# Altium schematic symbol library MyCompLib.SchLib: 229 symbols (part 1 of 2)
Pins are listed as number, name and electrical type; pins without a type are passive.

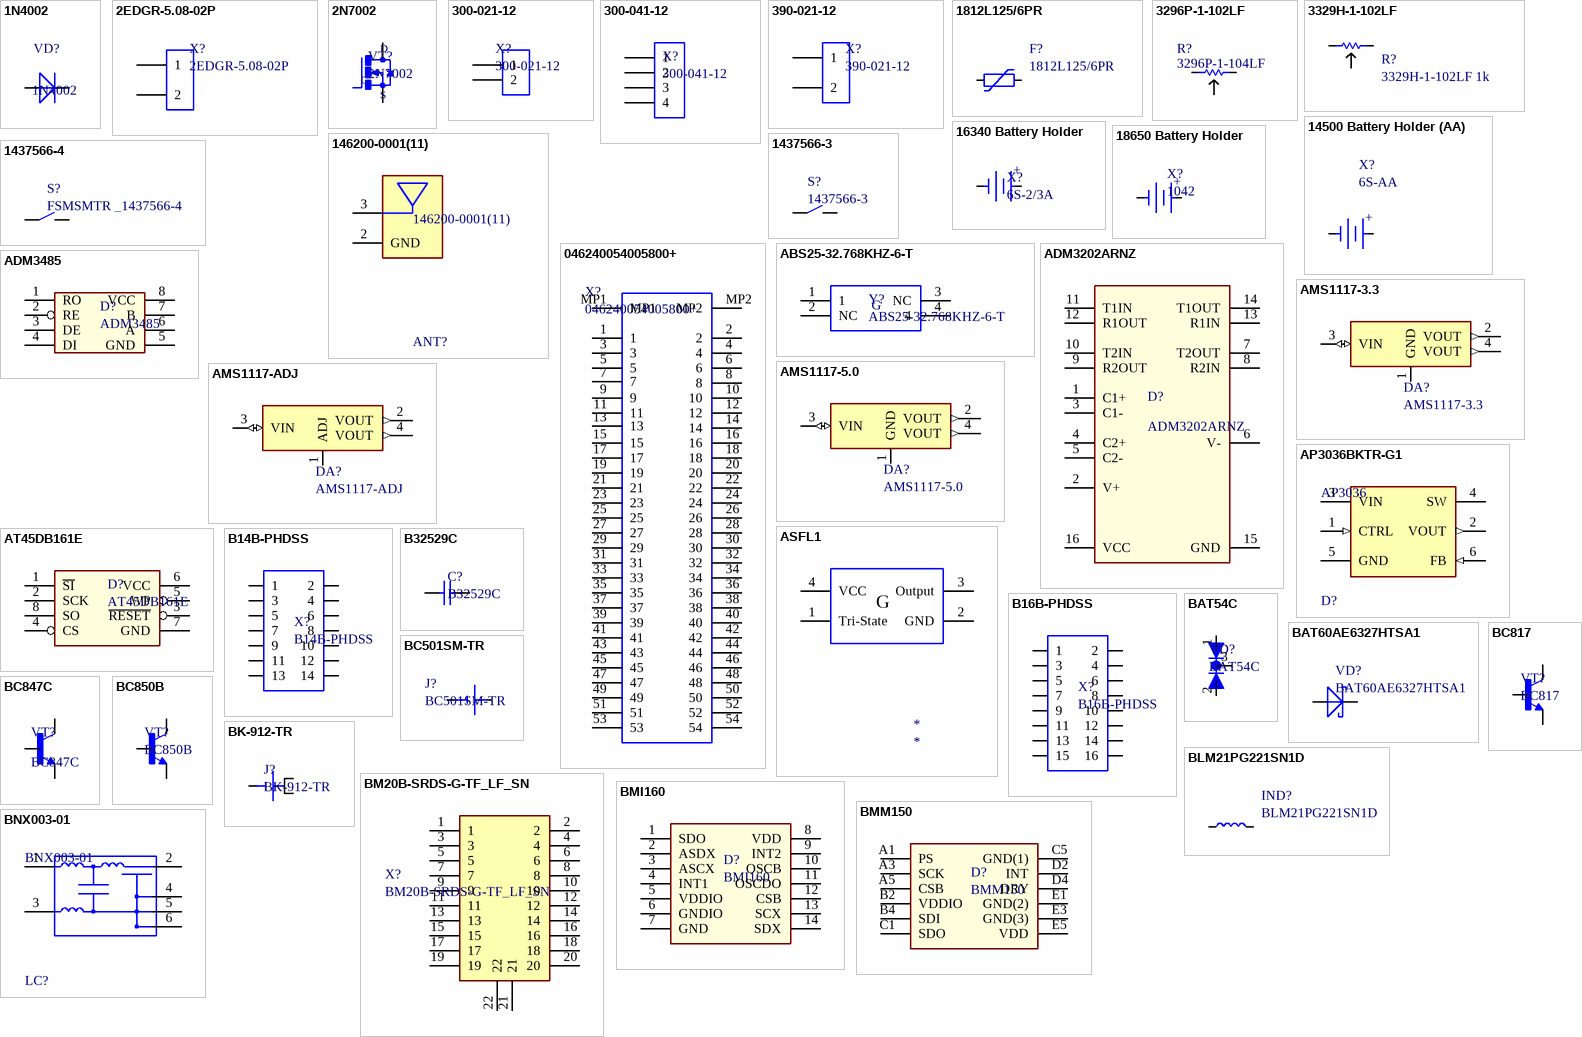
[diagram p0: symbols 1N4002 to BNX003-01]

## 1N4002
designator VD?
Diode Standard 100V 1A Through Hole DO-204AL _DO-41_; MF: ON Semiconductor; MP: 1N4002; Package: DO-204 MCC; Availability: Unavailable; Price: None; SnapEDA_Link: https://www.snapeda.com/parts/1N4002/ON%20Semiconductor/view-part/2756002/?ref=snap; Value: *
footprint DIOAD520W79L463D238_1N4002(Primary)
pins: A, C

## 2EDGR-5.08-02P
designator X?
Клеммник разъемный угловой 2 конт., шаг 5.08 мм / (KLS2-EDR-5.08-02P-4) / 2EDGK-5.08-02P - ответная часть; ComponentLink1Description: chipdip; ComponentLink1URL: https://www.chipdip.ru/product/kls2-edr-5.08-02p-4-2edgr-5.08-02p; ComponentLink2Description: elitan; ComponentLink2URL: https://www.elitan.ru/price/item21239767; ComponentLink3Description: ответная-часть; ComponentLink3URL: https://www.elitan.ru/price/item130957; ComponentLink4Description: на-кабель; ComponentLink4URL: https://www.chipdip.ru/product/kls2-edk-5.08-02p-4s-2esdv-02p?from=suggest_product
footprint 2EDGR-5.08-02P
pins: 1, 2

## 2N7002
designator VT?
N-Channel MOSFET 60В 0.115А [SOT-23] /; ComponentLink1Description: chipdip; ComponentLink1URL: https://www.chipdip.ru/product/2n7002-tp-reel-3000; ComponentLink2Description: elitan; ComponentLink2URL: https://www.elitan.ru/price/item484309
footprint SOT23
pins: 1 G, 2 S, 3 D

## 300-021-12
designator X?
Клеммник винтовой, 2-контактный, 5мм, прямой
footprint 300-021-12 (klemmnik 2)
pins: 1, 2

## 300-041-12
designator X?
Клеммник винтовой, 4-контактный, 5мм, прямой
footprint 300-041-12 (klemmnik 2)
pins: 1, 2, 3, 4

## 390-021-12
designator X?
Зажимной Клеммник 2-контактный, 5.0мм угловой DG390-5.0-02P (XY118-2P-05); ComponentLink1Description: chipdip; ComponentLink1URL: https://www.chipdip.ru/product/390-021-12?from=suggest_product; ComponentLink2Description: elitan; ComponentLink2URL: https://www.elitan.ru/price/item12230651
footprint 390-021-12
pins: 1, 2

## 1812L125/6PR
designator F?
Предохранитель SMD 6 VDC 2.5 A; ComponentLink1Description: elitan; ComponentLink1URL: https://www.elitan.ru/price/item387111
footprint FUSSC324X455X62L
pins: 1, 2

## 3296P-1-102LF
designator R?, comment 3296P-1-104LF
1 kOhms 0.5W, 1/2W PC Pins Through Hole Trimmer Potentiometer Cermet 25 Turn Side Adjustment; MF: Bourns; Package: QSOP-16 Bourns; MP: 3296P-1-104LF; SnapEDA_Link: https://www.snapeda.com/parts/3296P-1-104LF/Bourns/view-part/268477/?ref=snap; Availability: Unavailable; Price: None; Value: *
footprint 3296P-1
pins: 1 CCW, 2 WIPER, 3 CW

## 3329H-1-102LF
designator R?, comment 3329H-1-102LF 1k
1 кОм, Резистор подстроечный
footprint 3329H_1
pins: 1 CCW, 2 WIPER, 3 CW

## 14500 Battery Holder (AA)
designator X?, comment 6S-AA
14500 (AA) BATTERY HOLDER PC PIN / 6S-AA / BHAA-POL / BHAA-3-G; ComponentLink1Description: 6S_AA-elitan; ComponentLink1URL: https://www.elitan.ru/price/item10505404; ComponentLink2Description: battery_holders; ComponentLink2URL: https://www.batteryholders.com/search.php?cat=Battery+Holder&num=&type=AA&term=; ComponentLink3Description: BHAA-POL-elitan; ComponentLink3URL: https://www.elitan.ru/price/item10505736; ComponentLink4Description: BHAA-3-G-elitan; ComponentLink4URL: https://www.elitan.ru/price/item10505735; ComponentLink5Description: EagTac 14500 750mAh 3А защищенный; ComponentLink5URL: https://www.lacrosse-nn.ru/%D0%B0%D0%BA%D0%BA%D1%83%D0%BC%D1%83%D0%BB%D1%8F%D1%82%D0%BE%D1%80%D1%8B-li-ion-14500-16340-rcr123/eagtac-14500-750mah-3a/; ComponentLink6Description: EAGTAC 750mAh защищенный; ComponentLink6URL: https://magzaryada.ru/akkumulyatory/14500-16340/eagletac-14500; ComponentLink7Description: keystone1028-elitan; ComponentLink7URL: https://www.elitan.ru/price/item535632
footprint BAT_6S-AA
footprint BAT_BHAA-POL-G_MFG
footprint BAT_keystone1028_AA_14500
pins: NEG, POS
text: +

## 16340 Battery Holder
designator X?, comment 6S-2/3A
16340 Battery Holder with PC pins / Also Accepts: CR2/3A / Height above PCB: 15.1 mm; ComponentLink1Description: 6S-2/3A-elitan; ComponentLink1URL: https://www.elitan.ru/price/index.php?find=6S-2/3A&delay=-1&mfg=all&seenform=y; ComponentLink2Description: elitan_info; ComponentLink2URL: https://www.elitan.ru/price/item10994146; ComponentLink3Description: battery_holders; ComponentLink3URL: https://www.batteryholders.com/search.php?cat=Battery+Holder&num=&type=CR123A&term=&override=16340; ComponentLink4Description: 16340_750mAh_4.5A; ComponentLink4URL: https://magzaryada.ru/akkumulyatory/14500-16340/eagletac-16340-rcr123; ComponentLink5Description: EAGTAC 16340 / RCR123A 750mAh 4,5A защищенный; ComponentLink5URL: https://www.lacrosse-nn.ru/%D0%B0%D0%BA%D0%BA%D1%83%D0%BC%D1%83%D0%BB%D1%8F%D1%82%D0%BE%D1%80%D1%8B-li-ion-14500-16340-rcr123/eagtac-16340-750mah-4-5a/; ComponentLink6Description: 1029-elitan; ComponentLink6URL: https://www.elitan.ru/price/item468733
footprint BAT_6S-2/3A
footprint BAT_Keystone1029_2\3A_16340
pins: NEG, POS
text: +

## 18650 Battery Holder
designator X?, comment 1042
18650 Отсек для батарей; Размер: Монтаж: SMT; Кол-во бат:1 / 1044 / 1042 / BH-18650-PC /; ComponentLink1Description: 1042_elitan; ComponentLink1URL: https://www.elitan.ru/price/item8718560; ComponentLink2Description: 1044_elitan; ComponentLink2URL: https://www.elitan.ru/price/item11329775; ComponentLink3Description: BH-18650-PC-elitan; ComponentLink3URL: https://www.elitan.ru/price/item10505558; ComponentLink4Description: Li-Ion SAMSUNG 18650 35E (3400mah, 8A); ComponentLink4URL: https://air-hobby.ru/katalog/product/3487-akkumulyator-li-ion-samsung-18650-35e-3400mah-8a.html
footprint BAT_Keystone_1042
footprint BAT_BH-18650-PC
pins: NEG, POS
text: +

## 146200-0001(11)
designator ANT?
LTE Cellular Ceramic Antenna 698MHz-2.7GHz , SMT; ComponentLink1Description: 146200-0001 - elitan; ComponentLink1URL: https://www.elitan.ru/price/item13749296; ComponentLink2Description: 1462000011 - elitan; ComponentLink2URL: https://www.elitan.ru/price/item17428368
footprint Molex_146200-0001_MFG (LTE SMT ANTENNA)
footprint Molex_146200-0011_MFG (LTE SMT ANTENNA)
pins: 2 GND (power), 3 FEEDING

## 1437566-3
designator S?
SMD button; ComponentLink1Description: chipdip; ComponentLink1URL: https://www.chipdip.ru/product/tyco-1437566-3-fsmsm?from=suggest_product; ComponentLink2Description: elitan; ComponentLink2URL: https://www.elitan.ru/price/item565583
footprint 1437566-3
pins: 1, 2

## 1437566-4
designator S?, comment FSMSMTR _1437566-4
Switch Tactile OFF _ON_ SPST Rectangular Button Gull Wing 0.05A 12VDC 1.77N SMD T/R
footprint 1437566-4
pins: 1, 2

## 046240054005800+
designator X?
Connector; Manufacturer_Name: Kyocera Electronic Components; Datasheet Link: http://global.kyocera.com/prdct/electro/product/pdf/6240.pdf; Height: 4.7mm; Manufacturer_Part_Number: 046240054005800+
footprint 046240054005800
pins: 1, 2, 3, 4, 5, 6, 7, 8, 9, 10, 11, 12, 13, 14, 15, 16, 17, 18, 19, 20, 21, 22, 23, 24, 25, 26, 27, 28, 29, 30, 31, 32, 33, 34, 35, 36, 37, 38, 39, 40, 41, 42, 43, 44, 45, 46, 47, 48, 49, 50, 51, 52, 53, 54, MP1, MP2

## ABS25-32.768KHZ-6-T
designator Y?
32.768 kHz LOW FREQUENCY SMD CRYSTAL
footprint ABS25
pins: 1, 2 NC, 3 NC, 4
text: G

## ADM3202ARNZ
designator D?
3.3V SMD RS232-UART
footprint SOIC-16
pins: 1 C1+, 2 V+ (power), 3 C1-, 4 C2+, 5 C2-, 6 V- (power), 7 T2OUT, 8 R2IN, 9 R2OUT, 10 T2IN, 11 T1IN, 12 R1OUT, 13 R1IN, 14 T1OUT, 15 GND, 16 VCC (power)

## ADM3485
designator D?
3V RS485 Transciever
footprint SOIC8 (SO-8)
pins: 1 RO, 2 RE, 3 DE, 4 DI (power), 5 GND, 6 A, 7 B, 8 VCC (power)

## AMS1117-3.3
designator DA?
LDO  800мА, 3.3В, [SOT-223] Линейный регулятор с малым падением напряжения Максимальное входное напряжение, 15В; ComponentLink1Description: chipdip; ComponentLink1URL: https://www.chipdip.ru/product/ams1117-3.3; ComponentLink2Description: elitan; ComponentLink2URL: https://www.elitan.ru/price/item11501398
footprint SOT223
pins: 1 GND, 2 VOUT (out), 3 VIN (io), 4 VOUT (out)

## AMS1117-5.0
designator DA?
LDO  800мА, 5B [SOT-223] Линейный регулятор с малым падением напряжения Максимальное входное напряжение, 15 В; ComponentLink1Description: chipdip; ComponentLink1URL: https://www.chipdip.ru/product/ams1117-5.0?from=suggest_product; ComponentLink2Description: elitan; ComponentLink2URL: https://www.elitan.ru/price/item16347439
footprint SOT223
pins: 1 GND, 2 VOUT (out), 3 VIN (io), 4 VOUT (out)

## AMS1117-ADJ
designator DA?
LDO  800мА,  [SOT-223] Линейный регулятор с малым падением напряжения Максимальное входное напряжение, 15 В; ComponentLink1Description: chipdip; ComponentLink1URL: https://www.chipdip.ru/product/ams1117-adj; ComponentLink2Description: elitan; ComponentLink2URL: https://www.elitan.ru/price/item13462037
footprint SOT223
pins: 1 ADJ, 2 VOUT (out), 3 VIN (io), 4 VOUT (out)

## AP3036BKTR-G1
designator D?, comment AP3036
Inductor-based DC/DC converter designed to / drive up to eight white LEDs in series for backlight
footprint Diodes_SOT26_SC74R_IPC_B
pins: 1 CTRL (in), 2 VOUT (out), 3 VIN (power), 4 SW, 5 GND (power), 6 FB (in)

## ASFL1
designator *
pins: 1 Tri-State, 2 GND, 3 Output, 4 VCC
text: G

## AT45DB161E
designator D?
SPI FLASH 16Mbit(528 bytes x 4096 pages)
footprint SOIC8(5.3mm)
pins: 1 ~{SI}, 2 SCK, 3 ~{RESET}, 4 CS (power), 5 WP, 6 VCC, 7 GND, 8 SO (power)

## B14B-PHDSS
designator X?
HEADER, PHD, TOP, 16WAY, 2MM; Pitch Spacing:2mm; No. of Contacts:14Contacts;
footprint PHD14
pins: 1, 2, 3, 4, 5, 6, 7, 8, 9, 10, 11, 12, 13, 14

## B16B-PHDSS
designator X?
HEADER, PHD, TOP, 16WAY, 2MM; Pitch Spacing:2mm; No. of Contacts:16Contacts;
footprint PHD16
pins: 1, 2, 3, 4, 5, 6, 7, 8, 9, 10, 11, 12, 13, 14, 15, 16

## B32529C
designator C?
К73-17 Конденсатор металлоплёночный
footprint B32529(K73-17)_2.5x6.5x7.3
footprint B32529(K73-17)_3.5x8x7.3
footprint B32529(K73-17)_4.5x9.5x7.3
pins: 1, 2

## BAT54C
designator VD?
Small Signal Schottky Diode, Dual Common Cathode, 30 V, 200 mA, 400 mV, 600 mA, 125 C
footprint BAT54C_SOT23-3
pins: 1 A1, 2 A2, 3 C

## BAT60AE6327HTSA1
designator VD?
Диод Шоттки 3А Vfr = 0.37В, Vmax =10В [SOD-323]; ComponentLink1Description: chipdip; ComponentLink1URL: https://www.chipdip.ru/product/bat60a?from=suggest_product; ComponentLink2Description: elitan; ComponentLink2URL: https://www.elitan.ru/price/item9533309
footprint SOD-323
pins: 1 POS, 2 NEG

## BC501SM-TR
designator J?
Holder Coin Cell For Cr1220 Smd
footprint BC501SM-TR
pins: NEG, POS

## BC817
designator VT?
Transistor, NPN, 0.5A, 45V, Vbe = 1.2V , hfe = 40 [ SOT23 ]; ComponentLink1Description: chipdip; ComponentLink1URL: https://www.chipdip.ru/product/bc817-40?from=suggest_product
footprint SOT23
footprint SOT23-3
pins: 1 B, 2 E, 3 C

## BC847C
designator VT?
Транзистор NPN 45В 0.1А 0.25Вт
footprint SOT23
footprint SOT23-3
pins: 1 B, 2 E, 3 C

## BC850B
designator VT?
Transistor, Npn, 0.1A, 50V, Vbe = 0.7V, hfe = 240 [ SOT23 ]; ComponentLink1Description: chipdip; ComponentLink1URL: https://www.chipdip.ru/product/bc850b?from=suggest_product; ComponentLink2Description: elitan; ComponentLink2URL: https://www.elitan.ru/price/item5642305
footprint SOT23
footprint SOT23-3
pins: 1 B, 2 E, 3 C

## BK-912-TR
designator J?
Holder Coin Cell 20mm Smd
footprint BK-912-TR (CR2032battery holder)
footprint BK-912-TR_batt
pins: 1 POS, 2 POS, 3 NEG

## BLM21PG221SN1D
designator IND?
0805, Дроссель подавления ЭМП; ComponentLink1Description: 220-2A-chipdip; ComponentLink1URL: https://www.chipdip.ru/product/blm21pg221sn1d; ComponentLink2Description: pdf-reference; ComponentLink2URL: https://ru.mouser.com/datasheet/2/281/ENFA0005-1485072.pdf; ComponentLink3Description: 30ohm-3A-chipdip; ComponentLink3URL: https://www.chipdip.ru/product/blm21pg300sn1d; ComponentLink4Description: 30ohm-3A-elitan; ComponentLink4URL: https://www.elitan.ru/price/item310735; ComponentLink5Description: 1k-200mA-elitan; ComponentLink5URL: https://www.elitan.ru/price/item975836; ComponentLink6Description: 1k-1.6A-chipdip; ComponentLink6URL: https://www.chipdip.ru/product/blm21sp102sn1d; ComponentLink7Description: 1k-1.6A-elitan; ComponentLink7URL: https://www.elitan.ru/price/item21298136; ComponentLink8Description: 220-2A-elitan; ComponentLink8URL: https://www.elitan.ru/price/item305175
footprint BLM21PG221_0805
pins: 1, 2

## BM20B-SRDS-G-TF_LF_SN
designator X?
Штыревой разъем печатной платы / 20 pin, 1(mm) pitch; Manufacturer_Name: JST (JAPAN SOLDERLESS TERMINALS); Manufacturer_Part_Number: BM20B-SRDS-G-TF(LF)(SN); Datasheet Link: http://www.jst-mfg.com/product/pdf/eng/eSHD.pdf; Height: 4mm; ComponentLink1Description: elitan; ComponentLink1URL: https://www.elitan.ru/price/item500310
footprint BM20BSRDSGTFLFSN
pins: 1, 2, 3, 4, 5, 6, 7, 8, 9, 10, 11, 12, 13, 14, 15, 16, 17, 18, 19, 20, 21, 22

## BMI160
designator D?
IMUs - Inertial Measurement Units 6-Axis 950uA
footprint PQFN50P300X250X88-14N
pins: 1 SDO, 2 ASDX, 3 ASCX, 4 INT1, 5 VDDIO (power), 6 GNDIO, 7 GND, 8 VDD (power), 9 INT2, 10 OSCB, 11 OSCDO, 12 CSB, 13 SCX, 14 SDX

## BMM150
designator D?
Board Mount Hall Effect / Magnetic Sensors 3-Axis 1.56x1.56mm WLCSP-12 Geomagnetic
footprint BGA12C28P5X5
pins: A1 PS, A3 SCK, A5 CSB, B2 VDDIO, B4 SDI, C1 SDO, C5 GND(1), D2 INT, D4 DRY, E1 GND(2), E3 GND(3), E5 VDD

## BNX003-01
designator LC?
EMI фильтр индуктивно-емкостной 10A 150VDC 40дБ; ComponentLink1Description: elitan; ComponentLink1URL: https://www.elitan.ru/price/item279156; ComponentLink2Description: chipdip; ComponentLink2URL: https://www.chipdip.ru/product/bnx003-01?from=suggest_product
footprint Murata_BNX_L12MM5_W11MM5_T13MM0_MFG
pins: 1 B, 2 CB, 3 PSG, 4 CG, 5 CG, 6 CG

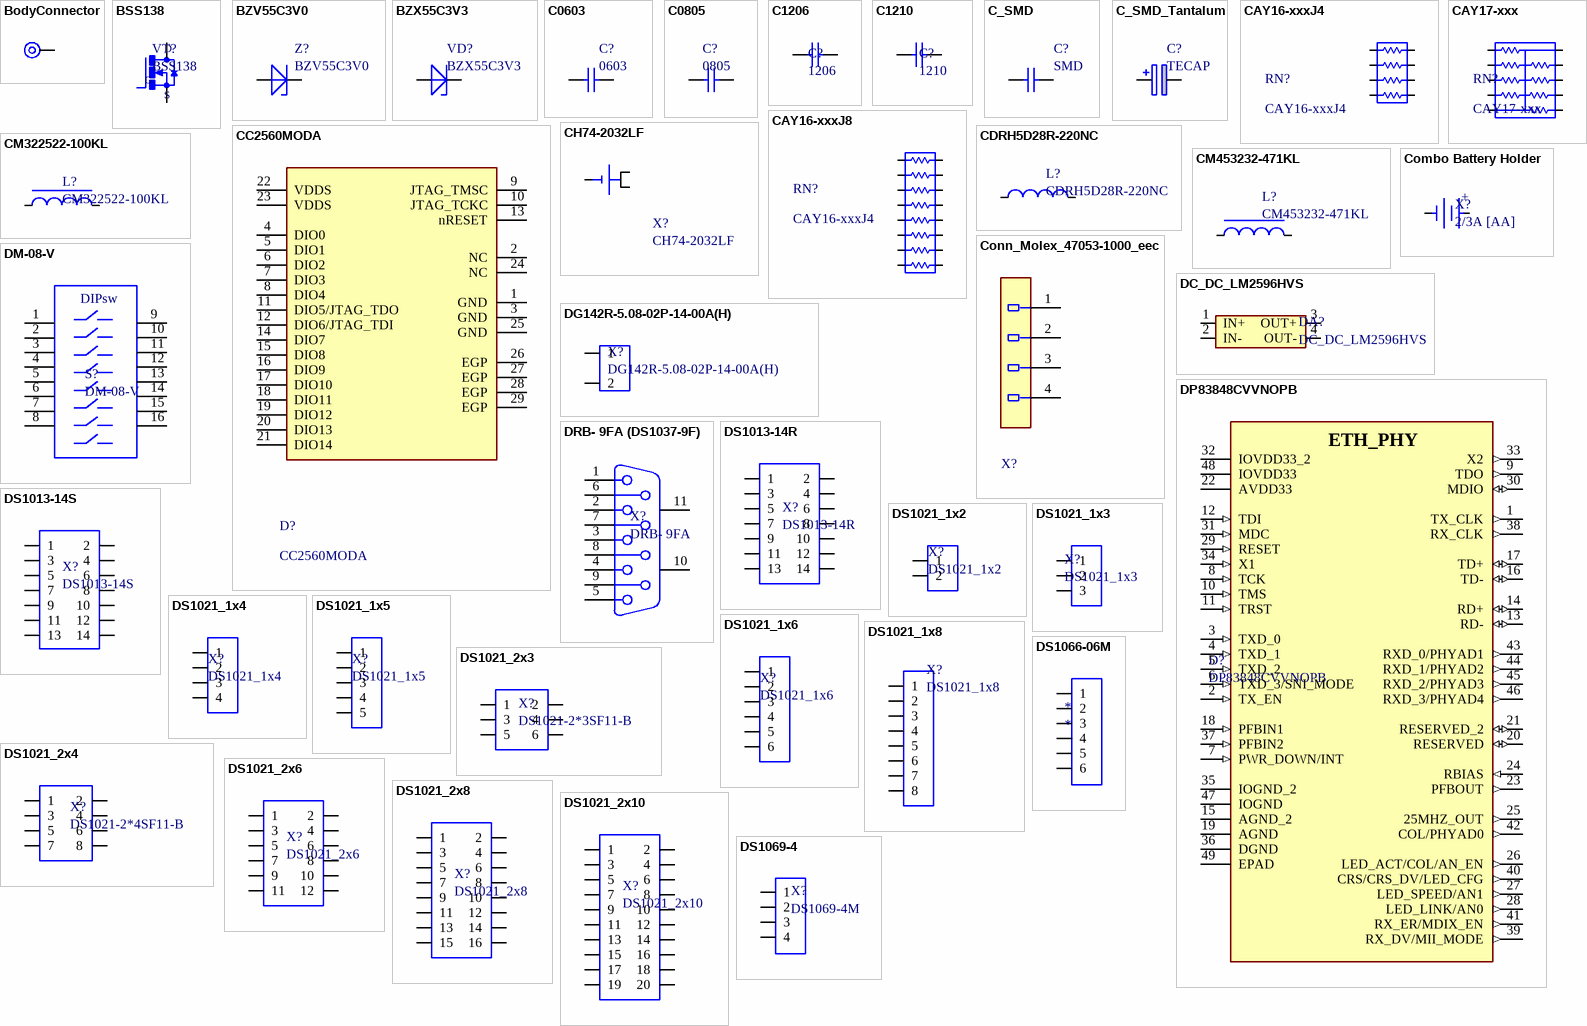
[diagram p1: symbols BodyConnector to DS1069-4]

## BodyConnector
designator BC?, comment Mounting Hole  (value not drawn)
footprint body_connection_1
pins: 1

## BSS138
designator VT?
MOSFET, N-канал, 0.2А, 50В, [SOT-23]; ComponentLink1Description: chipdip; ComponentLink1URL: https://www.chipdip.ru/product/bss138-7-f-diodes?from=suggest_product; ComponentLink2Description: elitan; ComponentLink2URL: https://www.elitan.ru/price/item305174
footprint SOT23
footprint SOT23-3
footprint BSS138BKW
pins: 1 G, 2 S, 3 D

## BZV55C3V0
designator Z?
Стабилитрон 3.0В, 5%, 0.5Вт,; ComponentLink1Description: chipdip; ComponentLink1URL: https://www.chipdip.ru/product/bzv55c3v0?from=suggest_product
footprint Mini-MELF
pins: 1 NEG, 2 POS

## BZX55C3V3
designator VD?
Стабилитрон 3.3В, 5%, 0.5Вт, DO-35; ComponentLink1Description: chipdip; ComponentLink1URL: https://www.chipdip.ru/product/bzx55c3v3?from=suggest_product
footprint THROU_HOLE2.54
pins: 1 POS, 2 NEG

## C0603
designator C?, comment 0603
SMD Cap 0603
footprint C_SMD0603
pins: 1, 2

## C0805
designator C?, comment 0805
SMD Cap 0805
footprint C_SMD0805
pins: 1, 2

## C1206
designator C?, comment 1206
SMD Cap 1206
footprint C_SMD1206
pins: 1, 2

## C1210
designator C?, comment 1210
Cap SMD1210
footprint C_SMD1210
pins: 1, 2

## C_SMD
designator C?, comment SMD
SMD Capacitor
footprint C_SMD0402
footprint C_SMD0603
footprint C_SMD0805
footprint C_SMD1206
footprint C_SMD1210
footprint C_SMD1812
pins: 1, 2

## C_SMD_Tantalum
designator C?, comment TECAP
Конденсатор танталовый SMD; ComponentLink1Description: 470uF-10V-chipdip; ComponentLink1URL: https://www.chipdip.ru/product0/145634327?from=suggest_product; ComponentLink2Description: 470uF-6.3V-elitan; ComponentLink2URL: https://www.elitan.ru/price/item936861
footprint TECAP_A
footprint TECAP_B
footprint TECAP_C
footprint TECAP_D
footprint TECAP_E
pins: 1 +, 2 -

## CAY16-xxxJ4
designator RN?
SMD 4-RES PACKAGE / CAY16-103J4LF / CAY16-471J4LF / CAY16-473J4; MF: Bourns; Check_prices: https://www.snapeda.com/parts/CAY16-471J4LF/Bourns/view-part/1382114/?ref=eda; SnapEDA_Link: https://www.snapeda.com/parts/CAY16-471J4LF/Bourns/view-part/1382114/?ref=snap; Availability: Unavailable; Price: None; Value: *; MP: CAY16-471J4LF; Package: 1206 Bourns; ComponentLink1Description: 47k-chipdip; ComponentLink1URL: https://www.chipdip.ru/product/cay16-473j4
footprint RESCAF80P320X160X60-8N
footprint RESCAF8
pins: 1 CCW, 2 CCW, 3 CCW, 4 CCW, 5 CW, 6 CW, 7 CW, 8 CW

## CAY16-xxxJ8
designator RN?, comment CAY16-xxxJ4
SMD 8-RES PACKAGE; MF: Bourns; MP: CAY16-471J4LF; Check_prices: https://www.snapeda.com/parts/CAY16-471J4LF/Bourns/view-part/1382114/?ref=eda; SnapEDA_Link: https://www.snapeda.com/parts/CAY16-471J4LF/Bourns/view-part/1382114/?ref=snap; Availability: Unavailable; Price: None; Value: *; Package: 1206 Bourns; ComponentLink1Description: 47k-chipdip; ComponentLink1URL: https://www.chipdip.ru/product/cay16-473j4
pins: 1 CCW, 2 CCW, 3 CCW, 4 CCW, 5 CCW, 6 CCW, 7 CCW, 8 CCW, 9 CW, 10 CW, 11 CW, 12 CW, 13 CW, 14 CW, 15 CW, 16 CW

## CAY17-xxx
designator RN?
SMD 8-BUSSED-RES PACKAGE / CAY17-104JALF; MF: Bourns; MP: CAY16-471J4LF; Check_prices: https://www.snapeda.com/parts/CAY16-471J4LF/Bourns/view-part/1382114/?ref=eda; SnapEDA_Link: https://www.snapeda.com/parts/CAY16-471J4LF/Bourns/view-part/1382114/?ref=snap; Availability: Unavailable; Price: None; Value: *; Package: 1206 Bourns; ComponentLink1Description: 10k-chipdip; ComponentLink1URL: https://www.chipdip.ru/product/cay17-103ja
footprint RESCAXS64P320X160X60-10N
pins: 1 CCW, 2 CCW, 3 CCW, 4 CCW, 5 CCW, 6 CCW, 7 CCW, 8 CCW, 9 CW, 10 CW

## CC2560MODA
designator D?
BLE module
footprint CC2560MODA_PCB
pins: 1 GND (power), 2 NC, 3 GND, 4 DIO0, 5 DIO1, 6 DIO2, 7 DIO3, 8 DIO4, 9 JTAG_TMSC, 10 JTAG_TCKC, 11 DIO5/JTAG_TDO, 12 DIO6/JTAG_TDI, 13 nRESET, 14 DIO7, 15 DIO8, 16 DIO9, 17 DIO10, 18 DIO11, 19 DIO12, 20 DIO13, 21 DIO14, 22 VDDS, 23 VDDS, 24 NC, 25 GND, 26 EGP, 27 EGP, 28 EGP, 29 EGP

## CDRH5D28R-220NC
designator L?
Силовая SMD индуктивность c магнитным экраном; ComponentLink1Description: elitan; ComponentLink1URL: https://www.elitan.ru/price/item912754
footprint INDPM6059X300N
pins: 1, 2

## CH74-2032LF
designator X?
MULTICOMP - CH74-2032LF - BATTERY HOLDER, DIP, VERT, 20MM
footprint CH742032
pins: 1 POS, 2 NEG, 3 POS

## CM322522-100KL
designator L?
Inductor General Purpose Chip Wirewound 10uH 10% 2.52MHz 30Q-Factor Ferrite 140mA 2.1Ohm DCR 1210 T/R
footprint IND1210
pins: 1, 2

## CM453232-471KL
designator L?
BOURNS - CM453232-471KL - INDUCTOR, 4532 CASE, 470UH
footprint INDPM4532
pins: 1, 2

## Combo Battery Holder
designator X?, comment 2/3A [AA]
16340 Battery Holder with PC pins / Also Accepts: CR2/3A / Height above PCB: 15.1 mm; ComponentLink1Description: keystone1029-elitan; ComponentLink1URL: https://www.elitan.ru/price/item468733; ComponentLink2Description: keystone1028-elitan; ComponentLink2URL: https://www.elitan.ru/price/item535632; ComponentLink3Description: batteryholders; ComponentLink3URL: https://www.batteryholders.com/search.php?cat=Battery+Holder&num=&type=CR123A&term=&override=16340
footprint BAT_6S-2/3A +_6S-AA
footprint BAT_keystone1028+1029
pins: NEG, POS
text: +

## Conn_Molex_47053-1000_eec
designator X?, comment 47053-1000  (value not drawn)
PWM CONN 4 Positions Header, Unshrouded Connector 0.100" (2.54mm) Through Hole Tin; Manufacturer: Molex; Voltage: 250V; Current: 4.0A; helpURL: https://upverter.com/upn/revision/17f438354fec4bac/; ComponentLink2Description: Datasheet; Temperature: 0°C to +75°C; Package: CONN_4P254L; Supplier 2: Mouser; Supplier 1: Digi-Key; ComponentLink1URL: https://upverter.com/upn/revision/17f438354fec4bac/; Supplier Part Number 2: 538-47053-1000; Supplier Part Number 1: WM4330-ND; ComponentLink1Description: Upverter; ComponentLink2URL: http://www.molex.com/webdocs/datasheets/pdf/en-us//0470531000_PCB_HEADERS.pdf; RoHS: TRUE; Mouser Part Number: 538-47053-1000; Ipc Land Pattern Name: HDRV4W65P_1X4_1020X65X1350; Temperature Range High: +75°C; Digikey Description: CONN 4 Positions Header, Unshrouded Connector 0.100" (2.54mm) Through Hole Tin; Digikey Part Number: WM4330-ND; Temperature Range Low: 0°C; Lead Free: yes; Contact Type: Male Pin; Mounting Style: Through Hole; Pitch: 2.54mm
footprint Molex_47053-1000_0
pins: 1, 2, 3, 4

## DC_DC_LM2596HVS
designator DA?
DC Step down conenter. Iput 4.5..50V ,Output 3..40V
footprint DC_DC_LM2596HVS (DC step down converter)
pins: 1 IN+, 2 IN-, 3 OUT+, 4 OUT-

## DG142R-5.08-02P-14-00A(H)
designator X?
Нажимной, безвинтовой клеммный блок на 2 контакта. Зажим типа торцевой контакт. Серия DG142R-5.08
footprint DG142R-5.08-02P-14-00A(H); pin to pad 1>1+3 2>2+4
pins: 1, 2

## DM-08-V
designator S?
SMD DIPSWITCH8
footprint DM-08-V (dipswitch8)
pins: 1, 2, 3, 4, 5, 6, 7, 8, 9, 10, 11, 12, 13, 14, 15, 16
text: DIPsw

## DP83848CVVNOPB
designator D?
ETH Transciever
footprint QFP48
pins: 1 TX_CLK (out), 2 TX_EN (in), 3 TXD_0 (in), 4 TXD_1 (in), 5 TXD_2 (in), 6 TXD_3/SNI_MODE (in), 7 PWR_DOWN/INT (in), 8 TCK (in), 9 TDO (out), 10 TMS (in), 11 TRST (in), 12 TDI (in), 13 RD- (io), 14 RD+ (io), 15 AGND_2, 16 TD- (io), 17 TD+ (io), 18 PFBIN1 (in), 19 AGND, 20 RESERVED (io), 21 RESERVED_2 (io), 22 AVDD33 (power), 23 PFBOUT (out), 24 RBIAS (in), 25 25MHZ_OUT (out), 26 LED_ACT/COL/AN_EN (out), 27 LED_SPEED/AN1 (out), 28 LED_LINK/AN0 (out), 29 RESET (in), 30 MDIO (io), 31 MDC (in), 32 IOVDD33_2 (power), 33 X2 (out), 34 X1 (in), 35 IOGND_2, 36 DGND, 37 PFBIN2 (in), 38 RX_CLK (out), 39 RX_DV/MII_MODE (out), 40 CRS/CRS_DV/LED_CFG (out), 41 RX_ER/MDIX_EN (out), 42 COL/PHYAD0 (out), 43 RXD_0/PHYAD1 (out), 44 RXD_1/PHYAD2 (out), 45 RXD_2/PHYAD3 (out), 46 RXD_3/PHYAD4 (out), 47 IOGND, 48 IOVDD33 (power), 49 EPAD
text: ETH_PHY

## DRB- 9FA (DS1037-9F)
designator X?, comment DRB- 9FA
DRB- 9FA (DS1037-9F)
footprint DRB- 9FA
pins: 1, 2, 3, 4, 5, 6, 7, 8, 9, 10 MH1, 11 MH2

## DS1013-14R
designator X?
Вилка на плату угловая 14 конт. 2.54мм
footprint IDC2-7H
pins: 1, 2, 3, 4, 5, 6, 7, 8, 9, 10, 11, 12, 13, 14

## DS1013-14S
designator X?
Вилка на плату прямая 14 конт. 2.54мм / ответная часть: DS1016-14MA2BB / или IDC-14F / шлейф DS1057-14A282R-30.5; ComponentLink1Description: smt-elitan; ComponentLink1URL: https://www.elitan.ru/price/item21920938; ComponentLink2Description: smt-electronshik; ComponentLink2URL: https://www.electronshik.ru/item/CONNFLY/DS1013-14MSIXA-B; ComponentLink3Description: smt-chipdip; ComponentLink3URL: https://www.chipdip.ru/product0/8160149550; ComponentLink4Description: IDC14-F-elitan; ComponentLink4URL: https://www.elitan.ru/price/item8570145; ComponentLink5Description: DS1016-14MA2BB-el; ComponentLink5URL: https://www.electronshik.ru/item/CONNFLY/DS1016-14MA2BB; ComponentLink6Description: шлейф-el; ComponentLink6URL: https://www.electronshik.ru/item/CONNFLY/DS1057-14A282R-30.5; ComponentLink7Description: шлейф-chipdip; ComponentLink7URL: https://www.chipdip.ru/product/ds1057-14-30
footprint IDC2-7
footprint IDC-14M (вилка SMD поверхностный монтаж)
pins: 1, 2, 3, 4, 5, 6, 7, 8, 9, 10, 11, 12, 13, 14

## DS1021_1x2
designator X?
Вилка штыревая 2.54мм 1x2 прямая PLS-2; ComponentLink1Description: chipdip; ComponentLink1URL: https://www.chipdip.ru/product/pls-2; ComponentLink2Description: elitan; ComponentLink2URL: https://www.elitan.ru/price/item10669650
footprint PLD2
pins: 1, 2

## DS1021_1x3
designator X?
Вилка штыревая 2.54мм 1x3 прямая тип1
footprint PLD1x3
pins: 1, 2, 3

## DS1021_1x4
designator X?
Вилка штыревая 2.54мм 1x4 прямая тип1 / (PLS-4); ComponentLink1Description: chipdip; ComponentLink1URL: https://www.chipdip.ru/product/pls-4
footprint PLD1X4
pins: 1, 2, 3, 4

## DS1021_1x5
designator X?
Вилка штыревая 2.54мм 1x5 прямая тип1 / (PLS-5); ComponentLink1Description: chipdip; ComponentLink1URL: https://www.chipdip.ru/product/pls-5?from=suggest_product
footprint PLD1X5
pins: 1, 2, 3, 4, 5

## DS1021_1x6
designator X?
Вилка штыревая 2.54мм 1x6 прямая тип1 / (PLS-6); ComponentLink1Description: chipdip; ComponentLink1URL: https://www.chipdip.ru/product/pls-6; ComponentLink2Description: elitan; ComponentLink2URL: https://www.elitan.ru/price/item20933988
footprint PLD1X6
pins: 1, 2, 3, 4, 5, 6

## DS1021_1x8
designator X?
Вилка штыревая 2.54мм 1x8 прямая тип1
footprint PLD1x8
pins: 1, 2, 3, 4, 5, 6, 7, 8

## DS1021_2x3
designator X?, comment DS1021-2*3SF11-B
Вилка штыревая 2.54мм 2x3 прямая тип1; ComponentLink1Description: chipdip; ComponentLink1URL: https://www.chipdip.ru/product/pld-6; ComponentLink2Description: electronshik; ComponentLink2URL: https://www.electronshik.ru/item/CONNFLY/DS1021-2x3SF11-B
footprint PLD2-3
pins: 1, 2, 3, 4, 5, 6

## DS1021_2x4
designator X?, comment DS1021-2*4SF11-B
Вилка штыревая 2.54мм 2x4 прямая тип1
footprint PLD2-4
pins: 1, 2, 3, 4, 5, 6, 7, 8

## DS1021_2x6
designator X?
Вилка штыревая 2.54мм 2x6 прямая тип1
footprint PLD2-6
pins: 1, 2, 3, 4, 5, 6, 7, 8, 9, 10, 11, 12

## DS1021_2x8
designator X?
Вилка штыревая 2.54мм 2х8 прямая PLD-16; ComponentLink1Description: chipdip; ComponentLink1URL: https://www.chipdip.ru/product/pld-16; ComponentLink2Description: elitan; ComponentLink2URL: https://www.elitan.ru/price/item14835380
footprint PLD2X8
pins: 1, 2, 3, 4, 5, 6, 7, 8, 9, 10, 11, 12, 13, 14, 15, 16

## DS1021_2x10
designator X?
Вилка штыревая 2.54мм 2х10 прямая; ComponentLink1Description: chipdip; ComponentLink1URL: https://www.chipdip.ru/product/pld-20?from=suggest_product
footprint PLD2-10
footprint PBD2X10
footprint PBD2X10R
pins: 1, 2, 3, 4, 5, 6, 7, 8, 9, 10, 11, 12, 13, 14, 15, 16, 17, 18, 19, 20

## DS1066-06M
designator *
Вилка на плату 2.50мм
footprint DS1066-06M
pins: 1, 2, 3, 4, 5, 6

## DS1069-4
designator X?, comment DS1069-4M
Вилка на плату 2.50мм
footprint DS1069-4 CWF-4 CONNFLY
footprint DS1069-4MR
pins: 1, 2, 3, 4

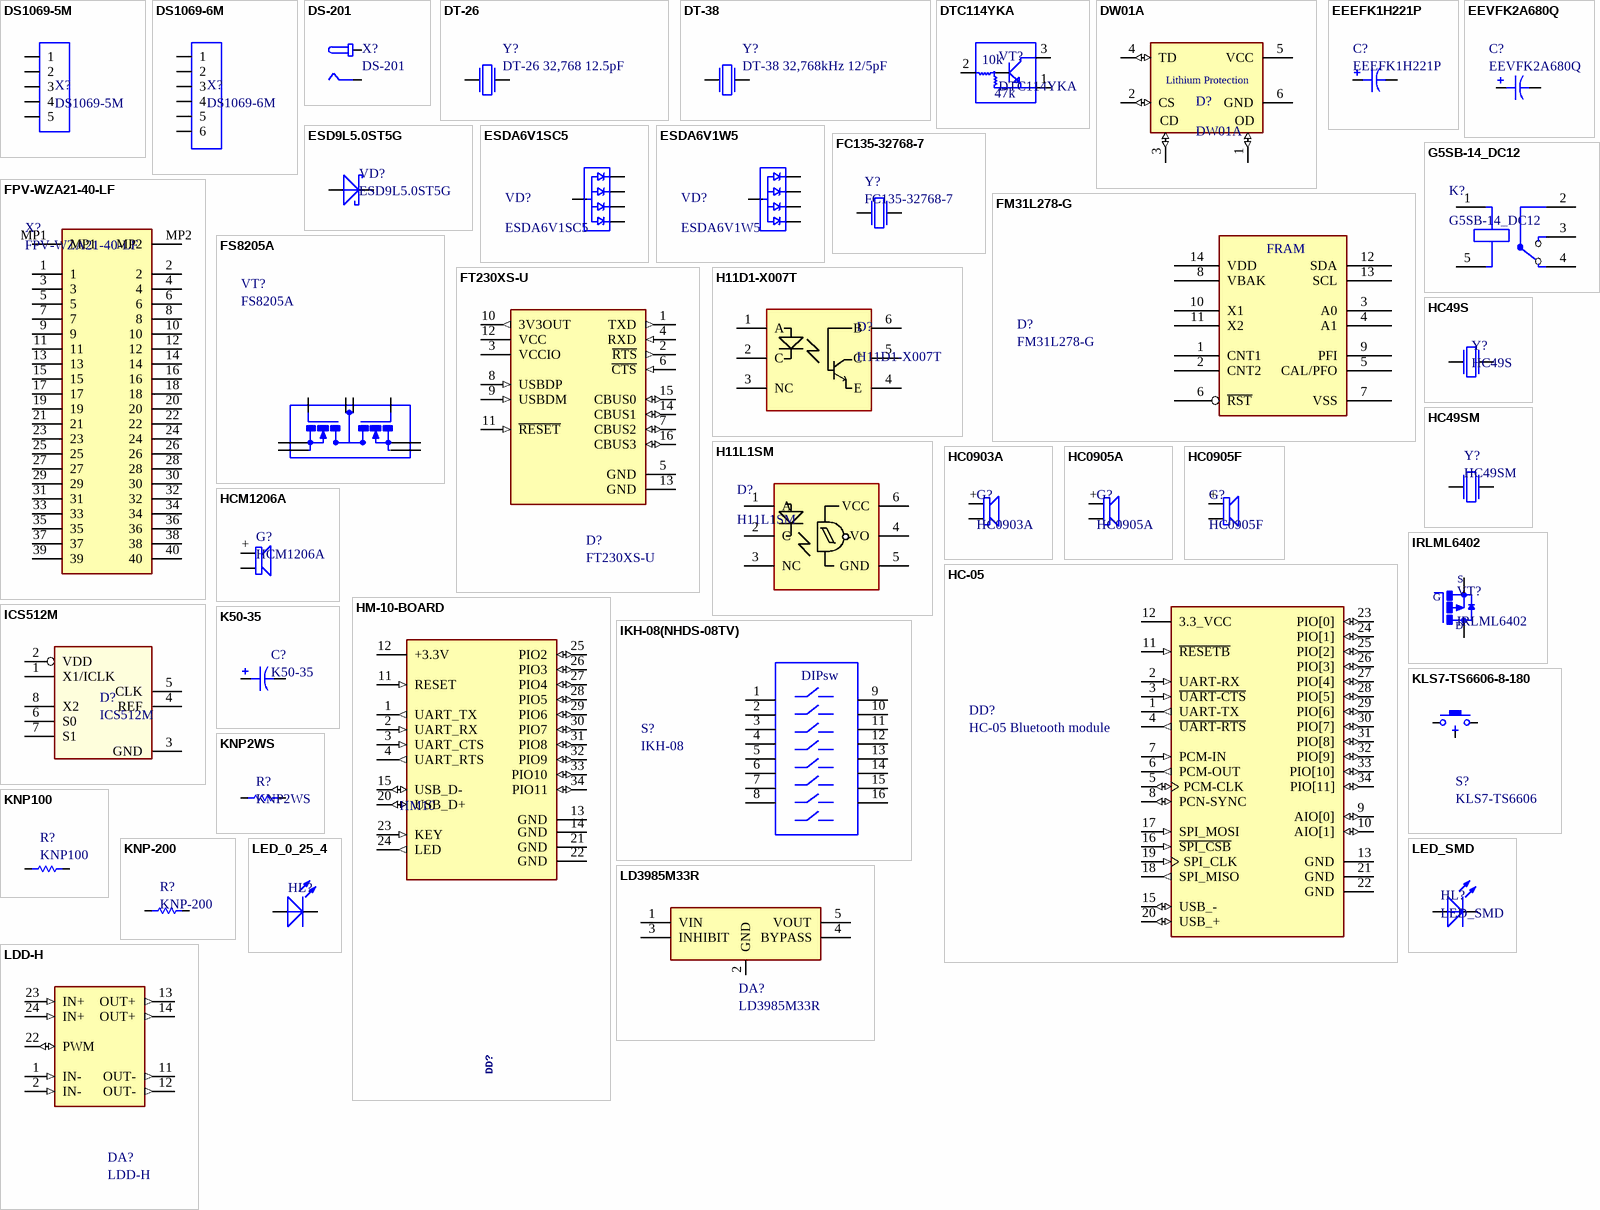
[diagram p2: symbols DS1069-5M to LED_SMD]

## DS1069-5M
designator X?
Вилка Dip прямая\угловая, шаг 2.50мм Номинальный ток: 3А АС, DC Max; ComponentLink1Description: chipdip; ComponentLink1URL: https://www.chipdip.ru/product/cwf-5?from=suggest_product; ComponentLink2Description: elitan; ComponentLink2URL: https://www.elitan.ru/price/item11496029
footprint DS1069-5M
footprint DS1069-5MR
pins: 1, 2, 3, 4, 5

## DS1069-6M
designator X?
Вилка Dip угловая, шаг 2.50мм Номинальный ток: 3А АС, DC Max
footprint DS1069-6M
footprint DS1069-6MR
pins: 1, 2, 3, 4, 5, 6

## DS-201
designator X?
Гнездо питания 2,1х5,5на плату
footprint DS-201
pins: 1 SHIELD, 2

## DT-26
designator Y?, comment DT-26 32,768 12.5pF
32,768 кГц имп. цил.2x6мм, DT-26, Кварцевый резонатор 12.5pF
footprint DT-26
pins: 1, 2

## DT-38
designator Y?, comment DT-38 32,768kHz 12/5pF
32,768 кГц имп. цил.3x8мм DT-38, Кварцевый резонатор 12/5pF
footprint DT-38
pins: 1, 2

## DTC114YKA
designator VT?
NPN Silicon Surface Mount Transistors with Monolithic Bias Resistor Network <br>; MF: Nexperia USA; MP: DTC114E; Availability: Unavailable; Value: *; Package: None; SnapEDA_Link: https://www.snapeda.com/parts/DTC114E/Nexperia%20USA%20Inc./view-part/2752450/?ref=snap; Price: None
footprint SOT346 SC-59 (SMT3)
pins: 1, 2, 3
text: 10k; 47k

## DW01A
designator D?
Pushbutton Switch SPST-NC Standard Panel Mount, Front; MF: Fortune Semiconductor; Price: None; Availability: Unavailable; Package: Package Analog Devices; SnapEDA_Link: https://www.snapeda.com/parts/DW01A/Fortune%20Semiconductor/view-part/4388554/?ref=snap; MP: DW01A; Value: *; ComponentLink1Description: elitan; ComponentLink1URL: https://www.elitan.ru/price/item379006536; ComponentLink2Description: electronshik; ComponentLink2URL: https://www.electronshik.ru/item/FUMAN/DW01A
footprint SOT23-6-D
pins: 1 OD (io), 2 CS (io), 3 OC (io), 4 TD (io), 5 VCC (power), 6 GND (power)
text: Lithium Protection; CD

## EEEFK1H221P
designator C?
Ecap 220uF 50V G case Panasonic Aluminium Electrolytic Capacitor 220F 50 V dc 10mm Surface Mount series FK SMD lifetime 2000h
footprint EEEFK1H221P
pins: 1, 2

## EEVFK2A680Q
designator C?
ЧИП электролит.конд. 68мкф 100В
footprint EEFK
pins: 1, 2

## ESD9L5.0ST5G
designator VD?
TVS диод защитный 5В_пиковое_рабочее 9.8В_ограничение SOD923; ComponentLink1Description: elitan; ComponentLink1URL: https://www.elitan.ru/price/index.php?find=ESD9L5.0ST5G&delay=-1&mfg=all&seenform=y; ComponentLink2Description: chipdip; ComponentLink2URL: https://www.chipdip.ru/product0/8001926257
footprint ESD9L5_514AB
pins: 1 POS, 2 NEG

## ESDA6V1SC5
designator VD?
Сборка защитная TVS-диодов 5.25В_пиковое_ SOT23-5 / Unidirectional Channels 4 / Voltage - Reverse Standoff (Typ) 5.25V / Voltage - Breakdown (Min) 6.1V; MF: STMicroelectronics; MP: ESDA6V1W5; Value: *; SnapEDA_Link: https://www.snapeda.com/parts/ESDA6V1W5/STMicroelectronics/view-part/225154/?ref=snap; Availability: Unavailable; Package: SOT-323 STMicroelectronics; Price: None; ComponentLink1Description: elitan; ComponentLink1URL: https://www.elitan.ru/price/item317230; ComponentLink2Description: electronshik; ComponentLink2URL: https://www.electronshik.ru/item/ST/ESDA6V1SC5; ComponentLink3Description: chipdip; ComponentLink3URL: https://www.chipdip.ru/product0/8001797118?from=suggest_product
footprint SOT23-5
pins: 1 A, 2 GND, 3 C, 4 B, 5 D

## ESDA6V1W5
designator VD?
Подавители ЭСР / диоды для подавления переходных скачков напряжения 6.1V 150W Unidirect / Unidirectional Channels 4 / Voltage - Reverse Standoff (Typ) 3V; MF: STMicroelectronics; Value: *; SnapEDA_Link: https://www.snapeda.com/parts/ESDA6V1W5/STMicroelectronics/view-part/225154/?ref=snap; Availability: Unavailable; MP: ESDA6V1W5; Package: SOT-323 STMicroelectronics; Price: None; ComponentLink1Description: elitan; ComponentLink1URL: https://www.elitan.ru/price/item694309; ComponentLink2Description: electronshik; ComponentLink2URL: https://www.electronshik.ru/item/ST/ESDA6V1W5; ComponentLink3Description: chipdip; ComponentLink3URL: https://www.chipdip.ru/product0/8001781099?from=suggest_product
footprint SOT65P210X110-5N
pins: 1 A, 2 GND, 3 C, 4 B, 5 D

## FC135-32768-7
designator Y?
RTC Clock SMD Crystal
footprint FC-135
pins: 1, 2

## FM31L278-G
designator D?
FRAM
footprint SOIC14
pins: 1 CNT1, 2 CNT2, 3 A0, 4 A1, 5 CAL/PFO, 6 ~{RST}, 7 VSS, 8 VBAK, 9 PFI, 10 X1, 11 X2, 12 SDA, 13 SCL, 14 VDD

## FPV-WZA21-40-LF
designator X?
SMT Connector; Manufacturer_Name: Kyocera Electronic Components; Manufacturer_Part_Number: 046240054005800+; Datasheet Link: http://global.kyocera.com/prdct/electro/product/pdf/6240.pdf; Height: 4.7mm
footprint FPV-WZA21-40-LF (SMT connector)
pins: 1, 2, 3, 4, 5, 6, 7, 8, 9, 10, 11, 12, 13, 14, 15, 16, 17, 18, 19, 20, 21, 22, 23, 24, 25, 26, 27, 28, 29, 30, 31, 32, 33, 34, 35, 36, 37, 38, 39, 40, MP1, MP2

## FS8205A
designator VT?
20V 6A DUAL N-Channel MOSFET Transistor; Manufacturer_Name: SII Semiconductor; Datasheet Link: http://www.ic-fortune.com/upload/Download/FS8205A-DS-12_EN.pdf; Height: 1.2mm; Manufacturer_Part_Number: FS8205A; ComponentLink1Description: elitan; ComponentLink1URL: https://www.elitan.ru/price/item13487239; ComponentLink2Description: electronshik; ComponentLink2URL: https://www.electronshik.ru/item/FUXIN/FS8205A
footprint SOP65P640X120-8N
pins: 1 D12_1, 2 S1_1, 3 S1_2, 4 G1, 5 G2, 6 S2_1, 7 S2_2, 8 D12_2

## FT230XS-U
designator D?
USB Controller, 3MBd, USB 1.1, USB 2.0, 5 V, 16-Pin SSOP
footprint SSOP16
pins: 1 TXD (out), 2 ~{RTS} (out), 3 VCCIO (power), 4 RXD (in), 5 GND (power), 6 ~{CTS} (in), 7 CBUS2 (io), 8 USBDP (in), 9 USBDM (in), 10 3V3OUT (out), 11 ~{RESET} (in), 12 VCC (power), 13 GND (power), 14 CBUS1 (io), 15 CBUS0 (io), 16 CBUS3 (io)

## G5SB-14_DC12
designator K?
Relay or Contactor; Manufacturer_Name: Omron Electronics; Manufacturer_Part_Number: G5SB-14 DC12; Datasheet Link: http://www.omron.com/ecb/products/pdf/en-g5sb.pdf
footprint G5SB-14 (5A-Reley)
pins: 1, 2, 3, 4, 5

## H11D1-X007T
designator D?
Оптопара с транзисторным выходом [SMD-6]
footprint H11D1 (SMD6)
pins: 1 A, 2 C, 3 NC, 4 E, 5 C, 6 B

## H11L1SM
designator D?
Оптопара с логическим выводом [SO-6]; Manufacturer_Name: ON Semiconductor; Datasheet Link: https://www.fairchildsemi.com/datasheets/H1/H11L1M.pdf; Manufacturer_Part_Number: H11L1SM; Mouser Part Number: 512-H11L1SM; Mouser Price/Stock: https://www.mouser.com/Search/Refine.aspx?Keyword=512-H11L1SM; RS Part Number: 8076608P; RS Price/Stock: http://uk.rs-online.com/web/p/products/8076608P
footprint H11L1SM (SMD6)
pins: 1 A, 2 C, 3 NC, 4 VO, 5 GND, 6 VCC

## HC49S
designator Y?
Кварцевый резонатор 10000kHz 30ppm, 20pF, корп. HC-49/S, -20...+60C; ComponentLink1Description: 10MHz-elitan; ComponentLink1URL: https://www.elitan.ru/price/item23156451
footprint HC-49/S
pins: 1, 2

## HC49SM
designator Y?
8 MHz resonator; ComponentLink1Description: 8MHz-chipdip; ComponentLink1URL: https://www.chipdip.ru/product/8mhz-hc-49sm; ComponentLink2Description: 8MHz-elitan; ComponentLink2URL: https://www.elitan.ru/price/item2093968
footprint HC49SM
pins: 1, 2

## HC0903A
designator G?
Buzzer 3V 80mA h=5mm d=9.5mm 3200Hz
footprint HC090xA
pins: 2, +

## HC0905A
designator G?
Buzzer 5V 80mA h=5mm d=9.5mm 3200Hz
footprint HC090xA
pins: 2, +

## HC0905F
designator G?
Buzzer 5V 80mA h=5mm d=9.5mm 3200Hz
footprint HC090xF
pins: 2, +

## HC-05
designator DD?, comment HC-05 Bluetooth module
footprint HC-05 (Bluetooth module)
pins: 1 UART-TX (out), 2 UART-RX (in), 3 ~{UART-CTS} (in), 4 ~{UART-RTS} (out), 5 PCM-CLK (io), 6 PCM-OUT (out), 7 PCM-IN (in), 8 PCN-SYNC (io), 9 AIO[0] (io), 10 AIO[1] (io), 11 ~{RESETB} (in), 12 3.3_VCC (power), 13 GND (power), 15 USB_- (io), 16 ~{SPI_CSB} (in), 17 SPI_MOSI (in), 18 SPI_MISO (out), 19 SPI_CLK (in), 20 USB_+ (io), 21 GND (power), 22 GND (power), 23 PIO[0] (io), 24 PIO[1] (io), 25 PIO[2] (io), 26 PIO[3] (io), 27 PIO[4] (io), 28 PIO[5] (io), 29 PIO[6] (io), 30 PIO[7] (io), 31 PIO[8] (io), 32 PIO[9] (io), 33 PIO[10] (io), 34 PIO[11] (io)

## HCM1206A
designator G?
Излучатель звука 6 В, 12 мм
footprint HCM1206X
pins: 2, +

## HM-10-BOARD
designator DD?, comment HM10
BLE4.0-module 3.3V / HM Bluetooth module use TI CC2540 or CC2541, Master and slave roles in one, transmission version and remote control version and PIO state acquisition functions in one, Support the AT command modify module parameters, Convenient and flexible.; GateName_1: G$1; SymbolName_1: HM-10; DeviceName: -BOARD; LibraryName: JNHuaMao; DeviceSetName: HM-10; Package: 26.9X13X2.2_BOARD
footprint HM10_BOARD
pins: 1 UART_TX (out), 2 UART_RX (in), 3 UART_CTS (in), 4 UART_RTS (out), 11 RESET (in), 12 +3.3V (power), 13 GND (power), 14 GND (power), 15 USB_D- (io), 20 USB_D+ (io), 21 GND (power), 22 GND (power), 23 KEY (in), 24 LED (out), 25 PIO2 (io), 26 PIO3 (io), 27 PIO4 (io), 28 PIO5 (io), 29 PIO6 (io), 30 PIO7 (io), 31 PIO8 (io), 32 PIO9 (io), 33 PIO10 (io), 34 PIO11 (io)

## ICS512M
designator D?
PLL Clock Multiplier Single 8-Pin SOIC 3 V ~ 5.25 V; ComponentLink1Description: elitan; ComponentLink1URL: https://www.elitan.ru/price/item555890; ComponentLink2Description: electronshik; ComponentLink2URL: https://www.electronshik.ru/item/IDT/ICS512MLFT
footprint SOIC8 (SO-8)
pins: 1 X1/ICLK, 2 VDD, 3 GND, 4 REF (power), 5 CLK, 6 S0, 7 S1, 8 X2 (power)

## IKH-08(NHDS-08TV)
designator S?, comment IKH-08
SMD DIPSWITCH8
pins: 1, 2, 3, 4, 5, 6, 7, 8, 9, 10, 11, 12, 13, 14, 15, 16
text: DIPsw

## IRLML6402
designator VT?
P-Channel 20V 3.7A _Ta_ 1.3W _Ta_ Surface Mount/SOT-23; MF: Infineon Technologies; Package: SC-59 Infineon Technologies; Value: *; Availability: Unavailable; SnapEDA_Link: https://www.snapeda.com/parts/IRLML6402/Infineon%20Technologies/view-part/2522811/?ref=snap; Price: None; MP: IRLML6402; ComponentLink1Description: chipdip; ComponentLink1URL: https://www.chipdip.ru/product/irlml6402tr?from=suggest_product; ComponentLink2Description: elitan; ComponentLink2URL: https://www.elitan.ru/price/item13518502
footprint SOT23
footprint SOT23-3
pins: 1 G, 2 S, 3 D

## K50-35
designator C?
Конденсатор электролитический алюминиевый; ComponentLink1Description: 220uF-50V-chipdip; ComponentLink1URL: https://www.chipdip.ru/product0/9000565903?from=suggest_product; ComponentLink2Description: 220uF-16V-chipdip; ComponentLink2URL: https://www.chipdip.ru/product0/9000565899?from=suggest_product; ComponentLink3Description: mini-47uF-25V-chipdip; ComponentLink3URL: https://www.chipdip.ru/product0/4892?from=suggest_product
footprint K50-35 5x11x2
footprint K50-35 6.3x11x2.5
footprint K50-35 6.3x11x2.5 RA
footprint K50-35mini 8x7x3.5 (ECAP)
footprint K50-35 8x11.5x3.5
footprint K50-35 10x12.5x5 (ECAP)
footprint K50-35mini 6.3x7x2.5 (ECAP)
footprint K50-35mini 4x7x2 (ECAP)
pins: 1, 2

## KLS7-TS6606-8-180
designator S?, comment KLS7-TS6606
6x6 Tact Switch Series; ComponentLink1Description: kls7-ts6606-7.0_chipdip; ComponentLink1URL: https://www.chipdip.ru/product/kls7-ts6606-7.0-180-tc-0206; ComponentLink2Description: elitan-7.0; ComponentLink2URL: https://www.elitan.ru/price/item22675038
footprint KLS7-TS6606 -4.3
footprint KLS7-TS6606 -5.0
footprint KLS7-TS6606 -6.0
footprint KLS7-TS6606 -7.0
footprint KLS7-TS6606 -8.0
footprint KLS7-TS6606 -13.0
pins: 1, 2, SH SHLD

## KNP2WS
designator R?
Резисторы с проволочной обмоткой – сквозное отверстие 2.2ohm 2W 5%; ComponentLink1Description: 2.2ohm-elitan; ComponentLink1URL: https://www.elitan.ru/price/item9785347
footprint KNP2WS
pins: 1 CCW, 2 CW

## KNP100
designator R?
Резисторы с проволочной обмоткой – сквозное отверстие 2.2ohm 1W 5%; ComponentLink1Description: 2.2ohm-elitan; ComponentLink1URL: https://www.elitan.ru/price/item8441237
footprint KNP100
pins: 1 CCW, 2 CW

## KNP-200
designator R?
Проволочный круглый резистор постоянный 2Вт 2.2Ом +5%; ComponentLink1Description: 2.2ohm-elitan; ComponentLink1URL: https://www.elitan.ru/price/item8497873
footprint KNP200
pins: 1 CCW, 2 CW

## LD3985M33R
designator DA?
LD3985M33R, Low Dropout Voltage Regulator, 0.55A, 3.3V 2%, 2.5 to 6Vin, 5-Pin SOT-23
footprint SOT23-5
pins: 1 VIN, 2 GND, 3 INHIBIT, 4 BYPASS, 5 VOUT

## LDD-H
designator DA?
LED Power Supplies
footprint LDD-H (LED Power Supplie)
pins: 1 IN- (in), 2 IN- (in), 11 OUT- (out), 12 OUT- (out), 13 OUT+ (out), 14 OUT+ (out), 22 PWM (io), 23 IN+ (in), 24 IN+ (in)

## LED_0_25_4
designator HL?  (value not drawn)
Throw Hole 3mm diameter LED; ComponentLink1Description: green-chipdip; ComponentLink1URL: https://www.chipdip.ru/product/gnl-3012gd; ComponentLink2Description: blue-chipdip; ComponentLink2URL: https://www.chipdip.ru/product/gnl-3014bc; ComponentLink3Description: red-chipdip; ComponentLink3URL: https://www.chipdip.ru/product/gnl-3012hd; ComponentLink4Description: red-elitan; ComponentLink4URL: https://www.elitan.ru/price/item16824793; ComponentLink5Description: green-elitan; ComponentLink5URL: https://www.elitan.ru/price/item16824792; ComponentLink6Description: orange-chipdip; ComponentLink6URL: https://www.chipdip.ru/product/gnl-3012ed
footprint LED0254 (3mm diamter LED)
footprint LED0254_SMD
footprint LED3mm
pins: 1 POS, 2 NEG

## LED_SMD
designator HL?
Vf =2 V, 20mA, 0603 / TO-1608BC-BF \  TO-1608BC-MRE; ComponentLink1Description: red-chipdip; ComponentLink1URL: https://www.chipdip.ru/product/to-1608bc-mre?from=suggest_product; ComponentLink2Description: green-chipdip; ComponentLink2URL: https://www.chipdip.ru/product/to-1608bc-pg?from=suggest_product; ComponentLink3Description: blue-chipdip; ComponentLink3URL: https://www.chipdip.ru/product/to-1608bc-bf?from=suggest_product; ComponentLink4Description: yellow-chipdip; ComponentLink4URL: https://www.chipdip.ru/product/to-1608bc-myf?from=suggest_product; ComponentLink5Description: red-elitan; ComponentLink5URL: https://www.elitan.ru/price/item16986056
footprint LED_SMD1608
footprint LED_SMD1608GREEN
footprint LED_SMD1608 + THR0254
pins: 1 POS, 2 NEG

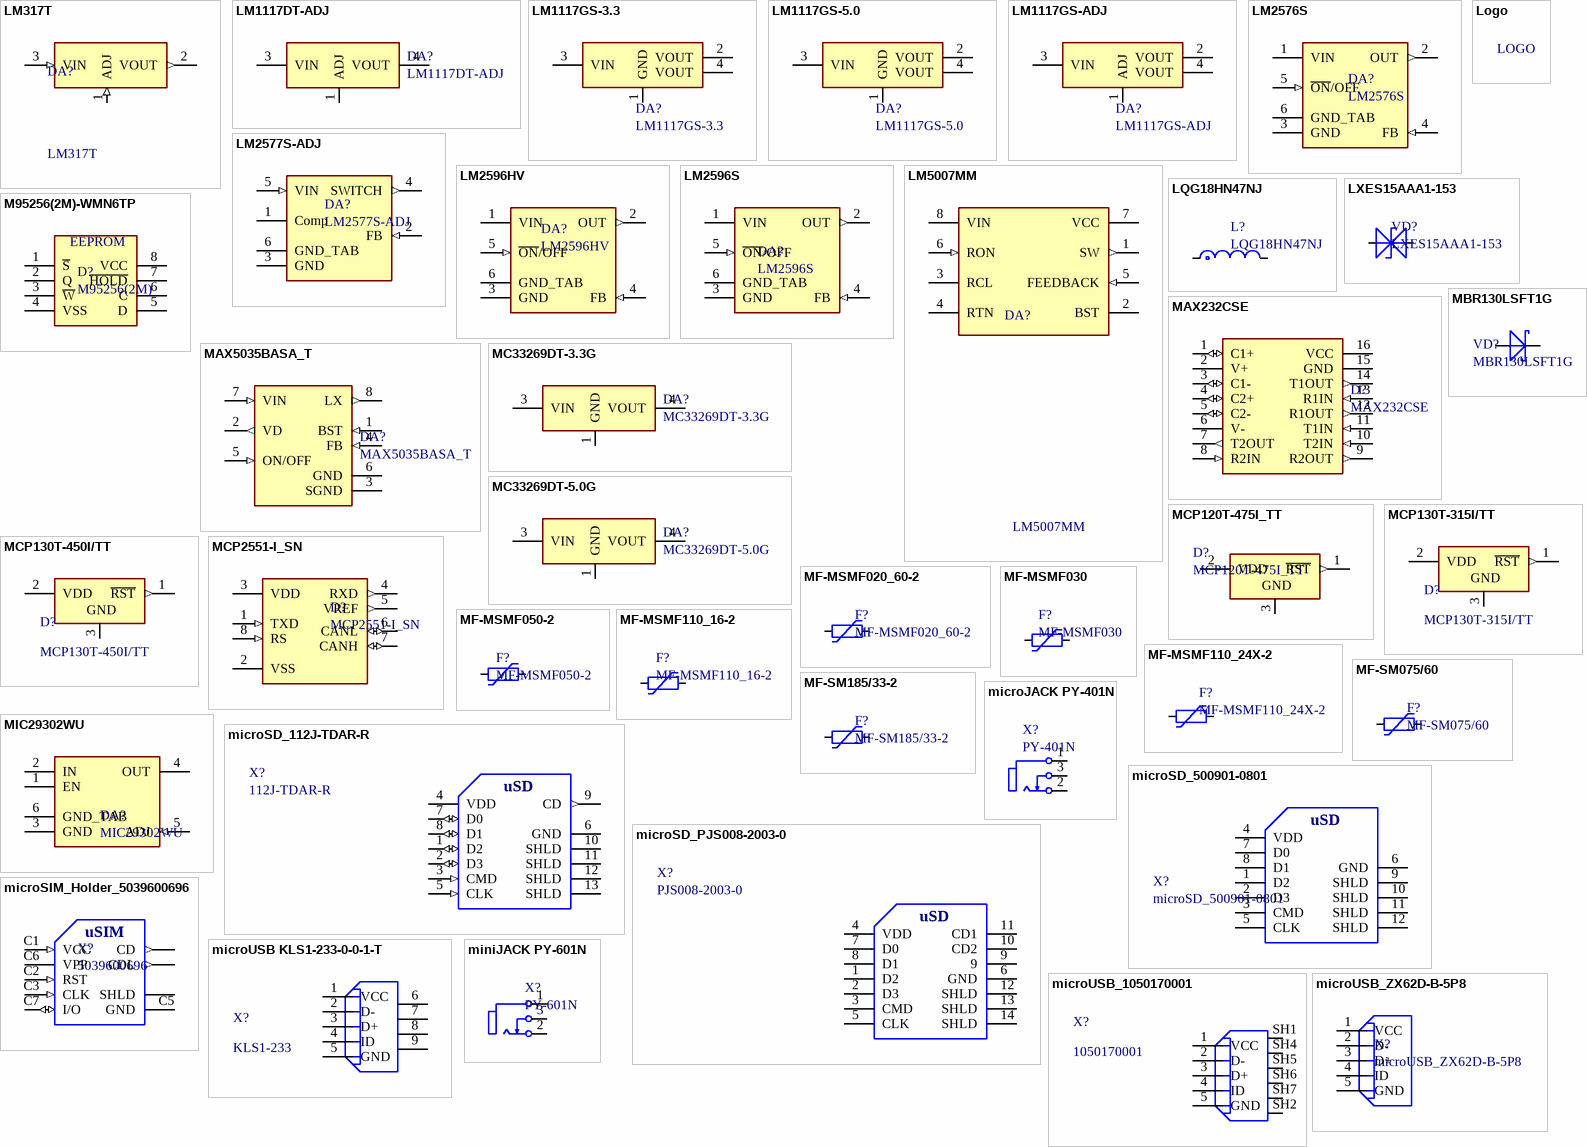
[diagram p3: symbols LM317T to miniJACK PY-601N]

## LM317T
designator DA?
Linear Voltage Regulator IC 1 Output 1.5A TO-220-3; MF: Texas Instruments; Price: None; SnapEDA_Link: https://www.snapeda.com/parts/LM317T/Texas%20Instruments/view-part/6933/?ref=snap; MP: LM317T; Availability: Unavailable; Package: TO-220 Texas Instruments; Value: *
footprint TO-220-long
pins: 1 ADJ (in), 2 VOUT (out), 3 VIN (in)

## LM1117DT-ADJ
designator DA?
LDO +1.25...13.8 В, 0.8А [TO-252 / D-PAK] линейный регулятор напряжения; ComponentLink1Description: chipdip; ComponentLink1URL: https://www.chipdip.ru/product/lm1117dt-adj-nopb; ComponentLink2Description: elitan; ComponentLink2URL: https://www.elitan.ru/price/item269472
footprint DPAK229P990X238-3N
pins: 1 ADJ, 3 VIN, 4 VOUT

## LM1117GS-3.3
designator DA?
LDO +3.3 В, 1А [SOT-223] / Линейный регулятор с низким падением напряжения, Максимальное входное напряжение, 20 В; ComponentLink1Description: chipdip; ComponentLink1URL: https://www.chipdip.ru/product/lm1117gs-3.3; ComponentLink2Description: elitan; ComponentLink2URL: https://www.elitan.ru/price/item21580113
footprint SOT223
pins: 1 GND, 2 VOUT (power), 3 VIN (power), 4 VOUT (power)

## LM1117GS-5.0
designator DA?
LDO +5В, 1А [SOT-223] / Линейный регулятор с низким падением напряжения, Максимальное входное напряжение, 20 В; ComponentLink1Description: chipdip; ComponentLink1URL: https://www.chipdip.ru/product/lm1117gs-5.0?from=suggest_product; ComponentLink2Description: elitan; ComponentLink2URL: https://www.elitan.ru/price/item21580114
footprint SOT223
pins: 1 GND, 2 VOUT (power), 3 VIN (power), 4 VOUT (power)

## LM1117GS-ADJ
designator DA?
LDO +1.25...13.8 В, 1А [SOT-223] / Линейный регулятор с низким падением напряжения, Максимальное входное напряжение, 20 В; ComponentLink1Description: chipdip; ComponentLink1URL: https://www.chipdip.ru/product/lm1117gs-adj; ComponentLink2Description: elitan; ComponentLink2URL: https://www.elitan.ru/price/item21580115
footprint SOT223
pins: 1 ADJ, 2 VOUT (power), 3 VIN (power), 4 VOUT (power)

## LM2576S
designator DA?
Импульсный понижающий регулятор напряжения, 5В, 3А, [TO-263]; ComponentLink1Description: 5V-shipdip; ComponentLink1URL: https://www.chipdip.ru/product/lm2576sx-5.0-nopb; ComponentLink2Description: 5V-elitan; ComponentLink2URL: https://www.elitan.ru/price/item100181
footprint TO263-5 (D2PAK)
footprint TO263-5 - heatsink (D2PAK)
pins: 1 VIN (power), 2 OUT (out), 3 GND, 4 FB (in), 5 ~{ON}/OFF (in), 6 GND_TAB

## LM2577S-ADJ
designator DA?
Преобразователь постоянного тока повышающий 3 А вход 3.5...40В выход 5...60В -40...+125°С; ComponentLink1Description: elitan; ComponentLink1URL: https://www.elitan.ru/price/item100192
footprint TO263-5 (D2PAK)
footprint TO263-5 - heatsink (D2PAK)
pins: 1 Comp (power), 2 FB (in), 3 GND, 4 SWITCH (out), 5 VIN (in), 6 GND_TAB

## LM2596HV
designator DA?
SIMPLE SWITCHER4; 4V to 60V, 3A Low Component Count Step-Down Regulator
footprint TO263-5
footprint TO263-5 - heatsink
footprint TO-220-5L
footprint TO-220-5L90 (TO-220-5L)
pins: 1 VIN (power), 2 OUT (out), 3 GND, 4 FB (in), 5 ~{ON}/OFF (in), 6 GND_TAB

## LM2596S
designator DA?
SIMPLE SWITCHER&#174; 4.5V to 40V, 3A Low Component Count Step-Down Regulator; ComponentLink1Description: 12V-chipdip; ComponentLink1URL: https://www.chipdip.ru/product1/8002950975?from=suggest_product; ComponentLink2Description: 12V-elitan; ComponentLink2URL: https://www.elitan.ru/price/item483504; ComponentLink3Description: adj-elitan; ComponentLink3URL: https://www.elitan.ru/price/item100231; ComponentLink4Description: adj-chipdip; ComponentLink4URL: https://www.chipdip.ru/product/lm2596s-adj-nopb; ComponentLink5Description: 5V-elitan; ComponentLink5URL: https://www.elitan.ru/price/item100230
footprint TO263-5 - heatsink (D2PAK)
footprint TO263-5 (D2PAK)
pins: 1 VIN (power), 2 OUT (out), 3 GND, 4 FB (in), 5 ~{ON}/OFF (in), 6 GND_TAB

## LM5007MM
designator DA?
9-75V Wide Vin, 500mA Constant On-Time Non-Synchronous Buck Regulator 8-VSSOP -40 to 125; MF: Texas Instruments; MP: LM5007MM/NOPB; Package: MSOP-8 Texas Instruments; Availability: Unavailable; SnapEDA_Link: https://www.snapeda.com/parts/LM5007MM/NOPB/Texas%20Instruments/view-part/16789/?ref=snap; Price: None; Value: *
footprint LM5007MM
pins: 1 SW (out), 2 BST, 3 RCL, 4 RTN, 5 FEEDBACK (in), 6 RON (in), 7 VCC (power), 8 VIN (power)

## Logo
designator N?  (value not drawn)
Print on PCB mask
footprint LOGO_SS
footprint LOGO_FLC
footprint LOGO_SS - bot
text: LOGO

## LQG18HN47NJ
designator L?
Чип индуктивность многослойная неэкранированная 47нГн 5% 100МГц / Maximum DC Current 300 mA / Maximum DC Resistance 700 mOhms; ComponentLink1Description: elitan; ComponentLink1URL: https://www.elitan.ru/price/item307313; ComponentLink2Description: chipdip; ComponentLink2URL: https://www.chipdip.ru/product/lqg18hn47nj?from=suggest_product
footprint L0603
pins: 1, 2

## LXES15AAA1-153
designator VD?
TVS диоды Подавители ЭСР / диоды для подавления переходных скачков напряжения ESD Protection Device; ComponentLink1Description: chipdip; ComponentLink1URL: https://www.chipdip.ru/product0/8001818635?from=suggest_product; ComponentLink2Description: elitan; ComponentLink2URL: https://www.elitan.ru/price/item11962267
footprint R_SMD0402
footprint Murata_LXES15_IPC_A
pins: 1 A, 2 K

## M95256(2M)-WMN6TP
designator D?, comment M95256(2M)
Serial EEPROM Memory 256kbit, Serial-SPI, 60ns 2.5  5.5 V, 8-Pin SOIC
footprint SOIC8 (SO-8)
pins: 1 ~{S}, 2 Q, 3 ~{W}, 4 VSS (power), 5 D, 6 C, 7 ~{HOLD}, 8 VCC (power)
text: EEPROM

## MAX232CSE
designator D?
Dual Transmitter/Receiver RS-232 16-Pin SOIC N
footprint MAX232
pins: 1 C1+ (io), 2 V+ (power), 3 C1- (io), 4 C2+ (io), 5 C2- (io), 6 V- (power), 7 T2OUT (out), 8 R2IN (in), 9 R2OUT (out), 10 T2IN (in), 11 T1IN (in), 12 R1OUT (out), 13 R1IN (in), 14 T1OUT (out), 15 GND (power), 16 VCC (power)

## MAX5035BASA_T
designator DA?
1A, 76V, High-Efficiency MAXPower Step-Down DC-DC Converter
footprint SOIC8 (SO-8)
pins: 1 BST (in), 2 VD (out), 3 SGND (power), 4 FB (in), 5 ON/OFF (in), 6 GND (power), 7 VIN (in), 8 LX (out)

## MBR130LSFT1G
designator VD?
Schottky Barrier Diodes, 1A to 2A, ON Semiconductor; ComponentLink1Description: chipdip; ComponentLink1URL: https://www.chipdip.ru/product/mbr130lsft1g
footprint SOD-123FL
pins: A POS, C NEG

## MC33269DT-3.3G
designator DA?
LDO  3.3В 800мА, [D-PAK] Uinmax 20B линейный регулятор напряжения; ComponentLink1Description: chipdip; ComponentLink1URL: https://www.chipdip.ru/product/mc33269dt-3.3g; ComponentLink2Description: elitan; ComponentLink2URL: https://www.elitan.ru/price/item104542
footprint DPAK229P990X238-3N
pins: 1 GND, 3 VIN, 4 VOUT

## MC33269DT-5.0G
designator DA?
LDO +5В, 800мА, [D-PAK] Uinmax 20B линейный регулятор напряжения; ComponentLink1Description: chipdip; ComponentLink1URL: https://www.chipdip.ru/product/mc33269dt-5.0g; ComponentLink2Description: elitan; ComponentLink2URL: https://www.elitan.ru/price/index.php?find=MC33269DT-5.0G&delay=-1&mfg=all&seenform=y
footprint DPAK229P990X238-3N
pins: 1 GND, 3 VIN, 4 VOUT

## MCP120T-475I_TT
designator D?
Супервизор с Open Drain выходом, Active Low Typical Reset Threshold Voltage (V) 4.625; Manufacturer_Name: Microchip; Manufacturer_Part_Number: MCP120T-475I/TT; Datasheet Link: http://docs-emea.rs-online.com/webdocs/1169/0900766b81169d58.pdf; Height: 1.12mm; Arrow Part Number: MCP120T-475I/TT; Arrow Price/Stock: https://www.arrow.com/en/products/mcp120t-475itt/microchip-technology; Mouser Part Number: 579-MCP120T475ITT; Mouser Price/Stock: https://www.mouser.co.uk/ProductDetail/Microchip-Technology/MCP120T-475I-TT?qs=V0aAF6KYZrNtaPP9%2F0gi2w%3D%3D; ComponentLink1Description: chipdip; ComponentLink1URL: https://www.chipdip.ru/product/mcp120t-475i-tt-microchip?from=suggest_product
footprint SOT23-3
footprint SOT23
pins: 1 ~{RST} (out), 2 VDD (power), 3 VSS (power)
text: GND

## MCP130T-315I/TT
designator D?
3.15 V 150 ms Microcontroller Supervisory Circuit - SOT-23-3; MF: Microchip; Value: *; Availability: Unavailable; Price: None; MP: MCP130T-315I/TT; Package: SOT-23 Microchip; SnapEDA_Link: https://www.snapeda.com/parts/MCP130T-315I/TT/Microchip/view-part/12206/?ref=snap; ComponentLink1Description: chipdip; ComponentLink1URL: https://www.chipdip.ru/product0/8002395837; ComponentLink2Description: elitan; ComponentLink2URL: https://www.elitan.ru/price/item505437
footprint SOT23-3
footprint SOT23
pins: 1 ~{RST} (out), 2 VDD (power), 3 VSS (power)
text: GND

## MCP130T-450I/TT
designator D?
4.50 V 150 ms Microcontroller Supervisory Circuit - SOT-23-3; MP: MCP130T-315I/TT; MF: Microchip; Value: *; Availability: Unavailable; Price: None; Package: SOT-23 Microchip; SnapEDA_Link: https://www.snapeda.com/parts/MCP130T-315I/TT/Microchip/view-part/12206/?ref=snap; ComponentLink1Description: elitan; ComponentLink1URL: https://www.elitan.ru/price/item505438; ComponentLink2Description: electronshik; ComponentLink2URL: https://www.electronshik.ru/item/MCRCH/MCP130T-450I%3A%3ATT
footprint SOT23-3
footprint SOT23
pins: 1 ~{RST} (out), 2 VDD (power), 3 VSS (power)
text: GND

## MCP2551-I_SN
designator D?
Series 5.5 V 1 Mb/s Surface Mount High-Speed CAN Transceiver - SOIC-8
footprint SOIC8 (SO-8)
pins: 1 TXD (in), 2 VSS, 3 VDD (power), 4 RXD (out), 5 VREF (out), 6 CANL (io), 7 CANH (io), 8 RS (in)

## MF-MSMF020_60-2
designator F?
Bourns 0.20A Resettable Surface Mount Fuse, 60V
footprint MF-MSMF020_60
pins: 1, 2

## MF-MSMF030
designator F?
Fuse, PTC, Resettable, SMD, 1812, 300mA Bourns 0.3A Surface Mount Resettable Fuse, 30 V
footprint MF-MSMF030
pins: 1, 2

## MF-MSMF050-2
designator F?
PTC Resettable Fuse 0.5A_hold_ 1A_trip_ 15V 100A 0.8W 0.15s 0.15Ohm SMD Solder Pad 1812 T/R
footprint FUSE1812x0
pins: 1, 2

## MF-MSMF110_16-2
designator F?
Fuse, PTC, Resettable, SMD,1812,1.1A,16V Bourns 1.1A Surface Mount Resettable Fuse, 16 V
footprint FUSC4632X85N
pins: 1, 2

## MF-MSMF110_24X-2
designator F?
PTC - 4.5mm(1812)SURFACE MNT Bourns 1.1A Surface Mount Resettable Fuse, 24 V
footprint MFMSMF11024X2
pins: 1, 2

## MF-SM075/60
designator F?
Resettable Fuse PTC 0.75A(hold) 1.5A(trip) 60V 10A 1.7W 0.3s 0.23Ohm SMD Solder Pad 7.98 X 5.44 X 3.
footprint MF-SM075/60
pins: 1, 2

## MF-SM185/33-2
designator F?
Самовосстанавливающийся предохранитель PTC 1.8A(hold) 3.6A(trip) 33VDC 40A 1.9W 5s 0.04Ohm SMD 3425 Solder Pad 9.5 X 6.71 X 3mm; ComponentLink1Description: elitan; ComponentLink1URL: https://www.elitan.ru/price/item781521; ComponentLink2Description: chipdip; ComponentLink2URL: https://www.chipdip.ru/product0/8001787493?from=suggest_product
footprint FUSM8867X300N
pins: 1, 2